# Altium footprint library Portier.PcbLib: 23 footprints (part 2 of 2)
Each footprint in its own frame and in the unit in brackets; x right, y up, seen from the top. Pads: shape width x height; smd on the part's side, far side on the other; paste and mask are expansions set on the pad; w line width, h text height; cw(c..) or ccw(c..) is an arc to the next point about the centre after c.
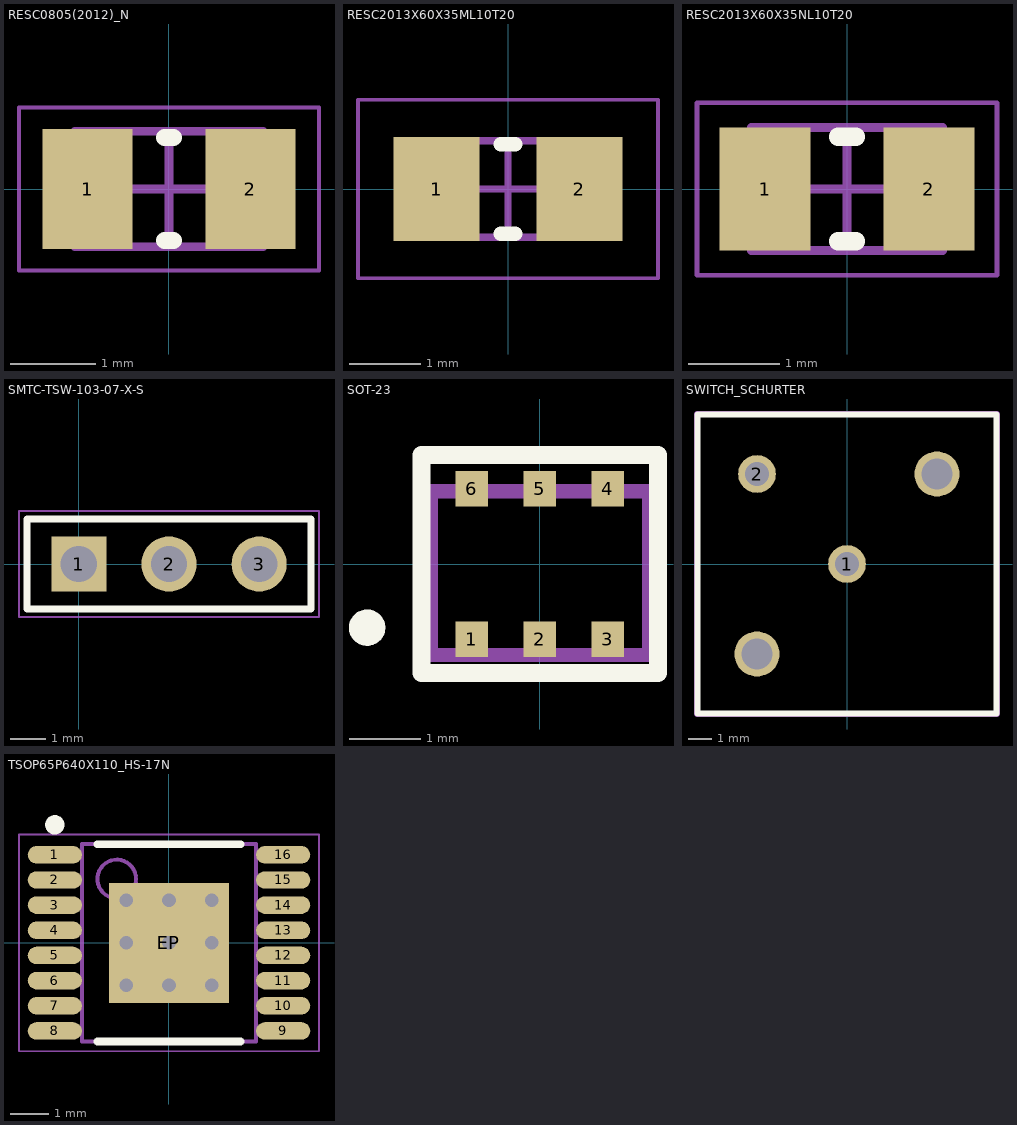
[diagram p1: the footprints below, top view; thin cyan lines are the x and y axes]

## RESC0805(2012)_N [mm] "Chip Resistor, Body 2.0x1.3mm, IPC Medium Density"
height 0.7
pads (2):
  rect 1.05x1.4 smd: 1(-0.95,0) 2(0.95,0)
Top Overlay:
  lines w0.2: -0.05,-0.6 0.05,-0.6 ; -0.05,0.6 0.05,0.6
Mechanical 13:
  lines w0.1: -1.1,-0.675 1.1,-0.675 1.1,0.675 -1.1,0.675 -1.1,-0.675
Mechanical 15:
  lines w0.05: -1.75,-0.95 1.75,-0.95 1.75,0.95 -1.75,0.95 -1.75,-0.95
  lines w0.1: -0.5,0 0.5,0 ; 0,-0.5 0,0.5
3D body: height 0.7, standoff 0, extent 0.68,-0.675 1.1,0.675
3D body: height 0.7, standoff 0, extent -0.68,-0.675 0.68,0.675
3D body: height 0.7, standoff 0, extent -1.1,-0.675 -0.68,0.675

## RESC2013X60X35ML10T20 [mm] "Chip Resistor, 2-Leads, Body 2.1x1.35mm, IPC Low Density"
height 0.6
pads (2):
  rect 1.2x1.45 smd: 1(-1,0) 2(1,0)
Top Overlay:
  lines w0.2: -0.1,-0.625 0.1,-0.625 ; -0.1,0.625 0.1,0.625
Mechanical 13:
  lines w0.1: -1.05,-0.675 1.05,-0.675 1.05,0.675 -1.05,0.675 -1.05,-0.675
Mechanical 15:
  lines w0.05: -2.1,-1.25 2.1,-1.25 2.1,1.25 -2.1,1.25 -2.1,-1.25
  lines w0.1: -0.5,0 0.5,0 ; 0,-0.5 0,0.5
3D body "RESC2012X06N.step": height 0.6, standoff 0, extent -1.05,-0.675 1.05,0.675

## RESC2013X60X35NL10T20 [mm] "Chip Resistor, 2-Leads, Body 2.1x1.35mm, IPC Medium Density"
height 0.6
pads (2):
  rect 1x1.35 smd: 1(-0.9,0) 2(0.9,0)
Top Overlay:
  lines w0.2: -0.1,-0.575 0.1,-0.575 ; -0.1,0.575 0.1,0.575
Mechanical 13:
  lines w0.1: -1.05,-0.675 -1.05,0.675 1.05,0.675 1.05,-0.675 -1.05,-0.675
Mechanical 15:
  lines w0.05: -1.65,-0.95 -1.65,0.95 1.65,0.95 1.65,-0.95 -1.65,-0.95
  lines w0.1: -0.5,0 0.5,0 ; 0,-0.5 0,0.5
3D body "RESC2012X06N.step": height 0.6, standoff 0, extent -1.05,-0.675 1.05,0.675

## SMTC-TSW-103-07-X-S [mm] ".025 SQ Post Terminal Strip Assembly, 1x3 Pins, Vertical, 2.54mm Pitch, Male"
height 8.58
pads (3):
  rect 1.55x1.55 hole 1.02: 1(0,0)
  round 1.55 hole 1.02: 2(2.54,0) 3(5.08,0)
Top Overlay:
  lines w0.2: -1.46,-1.27 -1.46,1.27 6.54,1.27 6.54,-1.27 -1.46,-1.27
Mechanical 13:
  lines w0.1: -1.46,-1.27 -1.46,1.27 6.54,1.27 6.54,-1.27 -1.46,-1.27
Mechanical 15:
  lines w0.05: -1.685,-1.495 -1.685,1.495 6.765,1.495 6.765,-1.495 -1.685,-1.495
3D body "TSW-103-07-X-S.step": height 8.38, standoff -2.54, extent -1.27,-1.27 6.35,1.27

## SOT-23 [mm] "LT1790  SOT-23"
height 3.5
pads (6):
  rect 0.45x0.5 smd: 1(-0.95,-1.05) 2(0,-1.05) 3(0.95,-1.05) 4(0.95,1.05) 5(0,1.05) 6(-0.95,1.05)
Top Overlay:
  circle w0.254: c-2.413,-0.889 r0.127
  lines w0.254: -1.651,-1.524 1.651,-1.524 1.651,1.524 -1.651,1.524 -1.651,-1.524
Mechanical 13:
  lines w0.2: -1.524,-1.27 1.524,-1.27 1.524,1.016 -1.524,1.016 -1.524,-1.27
3D body: height 1.25, standoff 0, extent -1.524,-1.143 1.524,1.05

## SWITCH_SCHURTER [mm] "switch 12.7x12.7"
height 3.5
pads (4):
  round 1.6 hole 1: 1(0,0) 2(-3.81,3.81)
  round 1.9 hole 1.3: " "(-3.81,-3.81) " "(3.81,3.81)
Top Overlay:
  lines w0.254: -6.325,-6.325 6.325,-6.325 6.325,6.325 -6.325,6.325 -6.325,-6.325
Mechanical 13:
  lines w0.254: -6.35,-6.35 6.35,-6.35 6.35,6.35 -6.35,6.35 -6.35,-6.35
3D body: height 17.5, standoff 4.4, extent -3.302,-3.302 3.302,3.302
3D body: height 4.4, standoff 0, extent -6.35,-6.35 6.35,6.223

## TSOP65P640X110_HS-17N [mm] "TSOP, 16-Leads, Body 5.00x4.40mm, Pitch 0.65mm, Thermal Pad 3.10x3.10mm, IPC Medium Density"
height 1.1
pads (17):
  oval 1.4x0.45 smd: 1(-2.95,2.275) 2(-2.95,1.625) 3(-2.95,0.975) 4(-2.95,0.325) 5(-2.95,-0.325) 6(-2.95,-0.975) 7(-2.95,-1.625) 8(-2.95,-2.275) 9(2.95,-2.275) 10(2.95,-1.625) 11(2.95,-0.975) 12(2.95,-0.325) 13(2.95,0.325) 14(2.95,0.975) 15(2.95,1.625) 16(2.95,2.275)
  rect 3.1x3.1 smd: EP(0,0)
via -1.1,-1.1 diameter 0.65 hole 0.35
via -1.1,0 diameter 0.65 hole 0.35
via 0,-1.1 diameter 0.65 hole 0.35
via 0,0 diameter 0.65 hole 0.35
via 1.1,0 diameter 0.65 hole 0.35
via -1.1,1.1 diameter 0.65 hole 0.35
via 0,1.1 diameter 0.65 hole 0.35
via 1.1,-1.1 diameter 0.65 hole 0.35
via 1.1,1.1 diameter 0.65 hole 0.35
Top Overlay:
  circle w0.25: c-2.95,3.05 r0.125
  lines w0.2: -1.85,-2.55 1.85,-2.55 ; -1.85,2.55 1.85,2.55
Mechanical 13:
  circle w0.1: c-1.35,1.65 r0.5
  lines w0.1: -2.25,-2.55 -2.25,2.55 2.25,2.55 2.25,-2.55 -2.25,-2.55
Mechanical 15:
  lines w0.05: -3.875,-2.8 -3.875,2.8 3.875,2.8 3.875,-2.8 -3.875,-2.8
  lines w0.1: -0.5,0 0.5,0 ; 0,-0.5 0,0.5
3D body "TSOP65P640X110_HS-17N.step": height 1.1, standoff 0, extent -3.187,-2.55 3.187,2.55